# EAGLE library part SSD1963 (library GadgetFactory_v1)
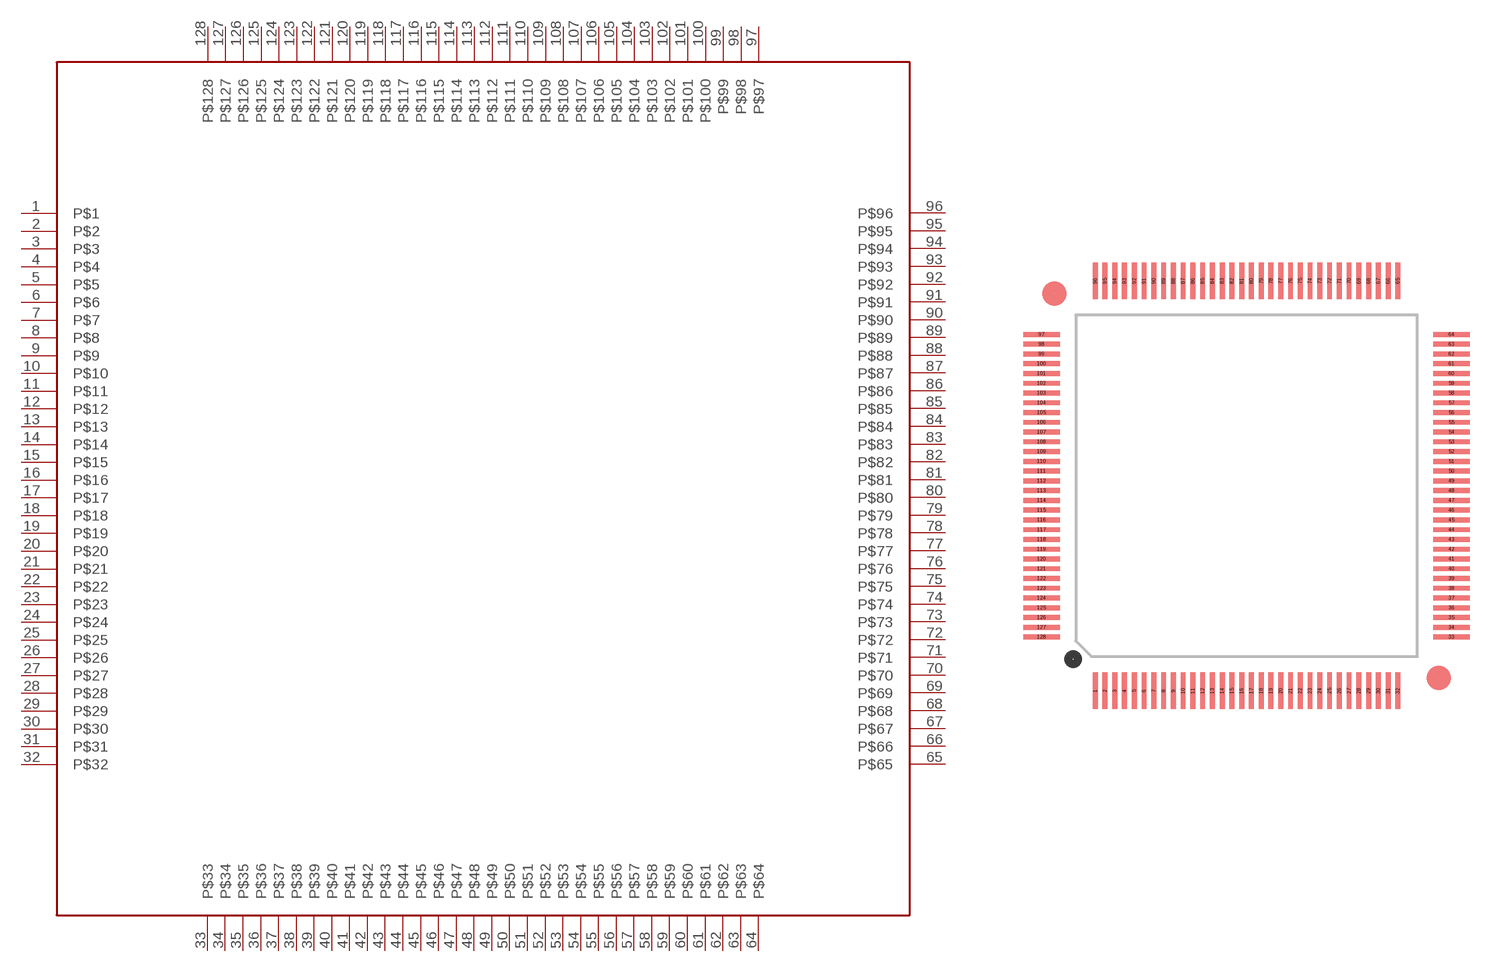
[diagram p59: symbol with the pads of LQFP128; footprint LQFP128]

Designator prefix U

## SSD1963QL9  [LQFP128]
1  P$1  pas
2  P$2  pas
3  P$3  pas
4  P$4  pas
5  P$5  pas
6  P$6  pas
7  P$7
8  P$8
9  P$9
10  P$10
11  P$11
12  P$12  pas
13  P$13  pas
14  P$14  pas
15  P$15  in
16  P$16  pas
17  P$17  pas
18  P$18  pas
19  P$19  pas
20  P$20  pas
21  P$21  pas
22  P$22  in
23  P$23  pas
24  P$24  out
25  P$25  pas
26  P$26  pas
27  P$27  pas
28  P$28
29  P$29
30  P$30
31  P$31
32  P$32  pas
33  P$33  pas
34  P$34  pas
35  P$35
36  P$36
37  P$37
38  P$38
39  P$39
40  P$40  pas
41  P$41  pas
42  P$42  pas
43  P$43
44  P$44
45  P$45
46  P$46  pas
47  P$47  pas
48  P$48  pas
49  P$49
50  P$50
51  P$51
52  P$52
53  P$53
54  P$54  pas
55  P$55  pas
56  P$56  pas
57  P$57  pas
58  P$58  pas
59  P$59
60  P$60
61  P$61
62  P$62
63  P$63
64  P$64  pas
65  P$65  pas
66  P$66  pas
67  P$67
68  P$68
69  P$69
70  P$70
71  P$71
72  P$72
73  P$73  pas
74  P$74  pas
75  P$75  pas
76  P$76
77  P$77
78  P$78
79  P$79
80  P$80
81  P$81
82  P$82  pas
83  P$83  pas
84  P$84  pas
85  P$85
86  P$86
87  P$87
88  P$88
89  P$89
90  P$90
91  P$91
92  P$92
93  P$93  pas
94  P$94  pas
95  P$95  pas
96  P$96  pas
97  P$97  pas
98  P$98
99  P$99
100  P$100  pas
101  P$101  pas
102  P$102  pas
103  P$103
104  P$104
105  P$105
106  P$106
107  P$107
108  P$108  pas
109  P$109  pas
110  P$110  pas
111  P$111
112  P$112
113  P$113
114  P$114
115  P$115
116  P$116
117  P$117  pas
118  P$118  pas
119  P$119  pas
120  P$120
121  P$121
122  P$122
123  P$123
124  P$124  pas
125  P$125  pas
126  P$126  pas
127  P$127
128  P$128

## Footprint LQFP128 (pad centres in mm)
smd 0.2 x 1.5: 1 -6.2,-8.4; 2 -5.8,-8.4; 3 -5.4,-8.4; 4 -5,-8.4; 5 -4.6,-8.4; 6 -4.2,-8.4; 7 -3.8,-8.4; 8 -3.4,-8.4; 9 -3,-8.4; 10 -2.6,-8.4; 11 -2.2,-8.4; 12 -1.8,-8.4; 13 -1.4,-8.4; 14 -1,-8.4; 15 -0.6,-8.4; 16 -0.2,-8.4; 17 0.2,-8.4; 18 0.6,-8.4; 19 1,-8.4; 20 1.4,-8.4; 21 1.8,-8.4; 22 2.2,-8.4; 23 2.6,-8.4; 24 3,-8.4; 25 3.4,-8.4; 26 3.8,-8.4; 27 4.2,-8.4; 28 4.6,-8.4; 29 5,-8.4; 30 5.4,-8.4; 31 5.8,-8.4; 32 6.2,-8.4; 65 6.2,8.4; 66 5.8,8.4; 67 5.4,8.4; 68 5,8.4; 69 4.6,8.4; 70 4.2,8.4; 71 3.8,8.4; 72 3.4,8.4; 73 3,8.4; 74 2.6,8.4; 75 2.2,8.4; 76 1.8,8.4; 77 1.4,8.4; 78 1,8.4; 79 0.6,8.4; 80 0.2,8.4; 81 -0.2,8.4; 82 -0.6,8.4; 83 -1,8.4; 84 -1.4,8.4; 85 -1.8,8.4; 86 -2.2,8.4; 87 -2.6,8.4; 88 -3,8.4; 89 -3.4,8.4; 90 -3.8,8.4; 91 -4.2,8.4; 92 -4.6,8.4; 93 -5,8.4; 94 -5.4,8.4; 95 -5.8,8.4; 96 -6.2,8.4
smd 1.5 x 0.2: 33 8.4,-6.2; 34 8.4,-5.8; 35 8.4,-5.4; 36 8.4,-5; 37 8.4,-4.6; 38 8.4,-4.2; 39 8.4,-3.8; 40 8.4,-3.4; 41 8.4,-3; 42 8.4,-2.6; 43 8.4,-2.2; 44 8.4,-1.8; 45 8.4,-1.4; 46 8.4,-1; 47 8.4,-0.6; 48 8.4,-0.2; 49 8.4,0.2; 50 8.4,0.6; 51 8.4,1; 52 8.4,1.4; 53 8.4,1.8; 54 8.4,2.2; 55 8.4,2.6; 56 8.4,3; 57 8.4,3.4; 58 8.4,3.8; 59 8.4,4.2; 60 8.4,4.6; 61 8.4,5; 62 8.4,5.4; 63 8.4,5.8; 64 8.4,6.2; 97 -8.4,6.2; 98 -8.4,5.8; 99 -8.4,5.4; 100 -8.4,5; 101 -8.4,4.6; 102 -8.4,4.2; 103 -8.4,3.8; 104 -8.4,3.4; 105 -8.4,3; 106 -8.4,2.6; 107 -8.4,2.2; 108 -8.4,1.8; 109 -8.4,1.4; 110 -8.4,1; 111 -8.4,0.6; 112 -8.4,0.2; 113 -8.4,-0.2; 114 -8.4,-0.6; 115 -8.4,-1; 116 -8.4,-1.4; 117 -8.4,-1.8; 118 -8.4,-2.2; 119 -8.4,-2.6; 120 -8.4,-3; 121 -8.4,-3.4; 122 -8.4,-3.8; 123 -8.4,-4.2; 124 -8.4,-4.6; 125 -8.4,-5; 126 -8.4,-5.4; 127 -8.4,-5.8; 128 -8.4,-6.2